# Altium schematic symbol library ICs.SchLib: 5 symbols
Pins are listed as number, name and electrical type; pins without a type are passive.

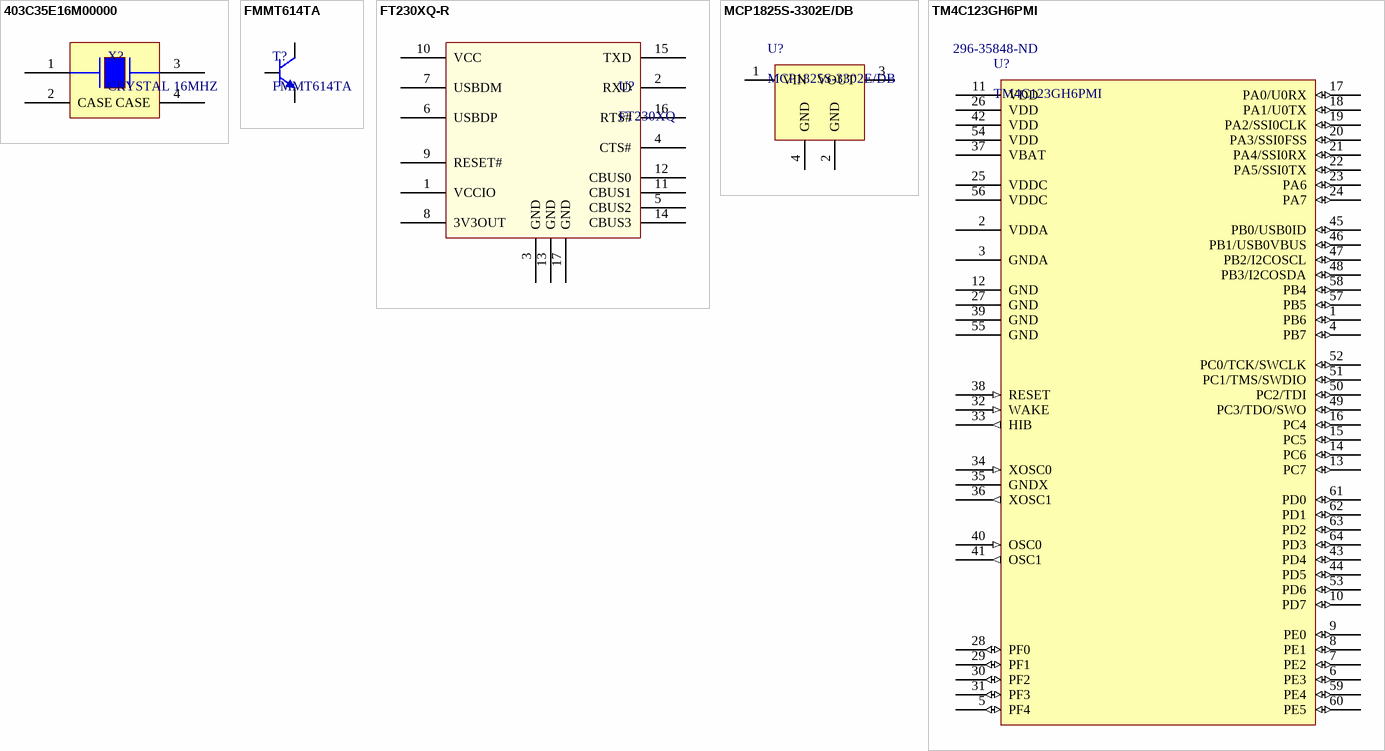
[diagram p0: symbols 403C35E16M00000 to TM4C123GH6PMI]

## 403C35E16M00000
designator X?, comment CRYSTAL 16MHZ
CRYSTAL 16MHZ 20PF SMD; Manufacturer: CTS-Frequency Controls; Manufacturer Part Number: 403C35E16M00000; Frequency Stability: ±50ppm; Frequency Tolerance: ±30ppm; ESR (Equivalent Series Resistance): 80 Ohm; Operating Mode: Fundamental; Supplier 1: Digi-Key; RoHS: RoHS Compliant; Category: Crystals and Oscillators; Stock 1: 7029; Pricing 1: 1=1.07, 10=0.95, 50=0.8866, 100=0.7847, 500=0.7415, 750=0.70228, 1000=0.61988 (CAD); Packaging: Cut Tape (CT); Type: MHz Crystal; Frequency: 16MHz; Load Capacitance: 20pF; Operating Temperature: -20°C ~ 70°C; Ratings: -; Mounting Type: Surface Mount; Package / Case: 4-SMD, No Lead (DFN, LCC); Size / Dimension: 0.126" L x 0.098" W (3.20mm x 2.50mm); Height: 0.031" (0.80mm); ComponentLink1URL: http://www.ctscorp.com/components/Datasheets/008-0288-0_F.pdf; ComponentLink1Description: http://www.ctscorp.com/components/Datasheets/008-0288-0_F.pdf; Supplier Part Number 1: CTX1293CT-ND
footprint CRYSTAL_3.2x2.5
pins: 1, 2 CASE, 3, 4 CASE

## FMMT614TA
designator T?
TRANS NPN DARL 100V 0.5A SOT23-3; Manufacturer: Diodes Incorporated; Transistor Type: NPN - Darlington; Vce Saturation (Max) @ Ib, Ic: 1V @ 5mA, 500mA; Current - Collector Cutoff (Max): 10µA; DC Current Gain (hFE) (Min) @ Ic, Vce: 15000 @ 100mA, 5V; Supplier 1: Digi-Key; Manufacturer Part Number: FMMT614TA; RoHS: RoHS Compliant; Category: Discrete Semiconductor Products; Stock 1: 28029; Pricing 1: 1=0.6, 10=0.51, 100=0.3809, 500=0.29928, 1000=0.23126 (CAD); Packaging: Cut Tape (CT); Part Status: Active; Frequency - Transition: -; Operating Temperature: -55°C ~ 150°C (TJ); Mounting Type: Surface Mount; Package / Case: TO-236-3, SC-59, SOT-23-3; Supplier Device Package: SOT-23-3; Base Part Number: FMMT614; ComponentLink1URL: https://www.diodes.com/assets/Datasheets/FMMT614.pdf; ComponentLink1Description: https://www.diodes.com/assets/Datasheets/FMMT614.pdf; Supplier Part Number 1: FMMT614CT-ND
footprint SOT95P245X112-3N (SOT23, 3-Leads, Body 2.92x2.45mm, Pitch 0.95mm, IPC Medium Density)
pins: 1 B, 2 E, 3 C

## FT230XQ-R
designator U?, comment FT230XQ
IC USB SERIAL BASIC UART 16QFN; Manufacturer: FTDI, Future Technology Devices International Ltd; Manufacturer Part Number: FT230XQ-R; Function: Bridge, USB to UART; Standards: USB 2.0; Voltage - Supply: 3.3 V ~ 5 V; Current - Supply: 8mA; Supplier 1: Digi-Key; Supplier Part Number 1: 768-1130-1-ND; RoHS: RoHS Compliant; Category: Integrated Circuits (ICs); Stock 1: 7567; Pricing 1: 1=2.64, 25=2.5508, 100=2.4601, 250=2.21412, 500=1.994, 1000=1.89042, 2500=1.86128 (CAD); Packaging: Cut Tape (CT); Protocol: USB; Interface: UART; Operating Temperature: -40°C ~ 85°C; Package / Case: 16-WQFN Exposed Pad; Supplier Device Package: 16-QFN (4x4); ComponentLink1URL: http://www.ftdichip.com/Support/Documents/DataSheets/ICs/DS_FT230X.pdf; ComponentLink1Description: http://www.ftdichip.com/Support/Documents/DataSheets/ICs/DS_FT230X.pdf
footprint QFN65P400X400X80_HS-17N (QFN, 16-Leads, Body 4.00x4.00mm, Pitch 0.65mm, Thermal Pad 2.08x2.08mm, IPC Medium Density)
pins: 1 VCCIO, 2 RXD, 3 GND, 4 CTS#, 5 CBUS2, 6 USBDP, 7 USBDM, 8 3V3OUT, 9 RESET#, 10 VCC, 11 CBUS1, 12 CBUS0, 13 GND, 14 CBUS3, 15 TXD, 16 RTS#, 17 GND

## MCP1825S-3302E/DB
designator U?
500 mA, Low Voltage, Low Quiescent Current LDO Regulator; Manufacturer: Microchip Technology; Regulator Topology: Positive Fixed; Voltage - Output: 3.3V; Current - Output: 500mA; Voltage - Dropout (Typical): 0.21V @ 500mA; Number of Regulators: 1; Voltage - Input: Up to 6V; Supplier 1: Digi-Key; Supplier Part Number 1: MCP1825S-3302E/DB-ND; Manufacturer Part Number: MCP1825S-3302E/DB; RoHS: RoHS Compliant; Category: Integrated Circuits (ICs); Stock 1: 5172; Pricing 1: 1=0.61, 10=0.51, 25=0.43, 100=0.39 (USD); Packaging: Tube; Current - Limit (Min): -; Operating Temperature: -40°C ~ 125°C; Mounting Type: Surface Mount; Package / Case: TO-261-4, TO-261AA; Supplier Device Package: SOT-223-3; ComponentLink1URL: http://www.microchip.com/mymicrochip/filehandler.aspx?ddocname=en531698; ComponentLink1Description: http://www.microchip.com/mymicrochip/filehandler.aspx?ddocname=en531698
footprint SOT230P700X180-4N (SOT223, 4-Leads, Body 6,7x7,3mm (max), Pitch 2,30mm, IPC Medium Density)
pins: 1 VIN (power), 2 GND (power), 3 VOUT (power), 4 GND (power)

## TM4C123GH6PMI
designator U?  Supplier Part Number 1: 296-35848-ND
Tiva TM4C123GH6PM Microcontroller ARM Cortex 80 MHz FPU; Supplier 1: Digi-Key
footprint TSQFP50P1200X1200X120-64N (TSQFP, 64-Leads, Body 12,0x12,0mm (max), Pitch 0,50mm, IPC Medium Density)
pins: 1 PB6 (io), 2 VDDA (power), 3 GNDA (power), 4 PB7 (io), 5 PF4 (io), 6 PE3 (io), 7 PE2 (io), 8 PE1 (io), 9 PE0 (io), 10 PD7 (io), 11 VDD (power), 12 GND (power), 13 PC7 (io), 14 PC6 (io), 15 PC5 (io), 16 PC4 (io), 17 PA0/U0RX (io), 18 PA1/U0TX (io), 19 PA2/SSI0CLK (io), 20 PA3/SSI0FSS (io), 21 PA4/SSI0RX (io), 22 PA5/SSI0TX (io), 23 PA6 (io), 24 PA7 (io), 25 VDDC (power), 26 VDD (power), 27 GND (power), 28 PF0 (io), 29 PF1 (io), 30 PF2 (io), 31 PF3 (io), 32 WAKE (in), 33 HIB (out), 34 XOSC0 (in), 35 GNDX (power), 36 XOSC1 (out), 37 VBAT (power), 38 RESET (in), 39 GND (power), 40 OSC0 (in), 41 OSC1 (out), 42 VDD (power), 43 PD4 (io), 44 PD5 (io), 45 PB0/USB0ID (io), 46 PB1/USB0VBUS (io), 47 PB2/I2COSCL (io), 48 PB3/I2COSDA (io), 49 PC3/TDO/SWO (io), 50 PC2/TDI (io), 51 PC1/TMS/SWDIO (io), 52 PC0/TCK/SWCLK (io), 53 PD6 (io), 54 VDD (power), 55 GND (power), 56 VDDC (power), 57 PB5 (io), 58 PB4 (io), 59 PE4 (io), 60 PE5 (io), 61 PD0 (io), 62 PD1 (io), 63 PD2 (io), 64 PD3 (io)